# Altium schematic symbol library Roneire_Lib.SchLib: 2 symbols
Pins are listed as number, name and electrical type; pins without a type are passive.

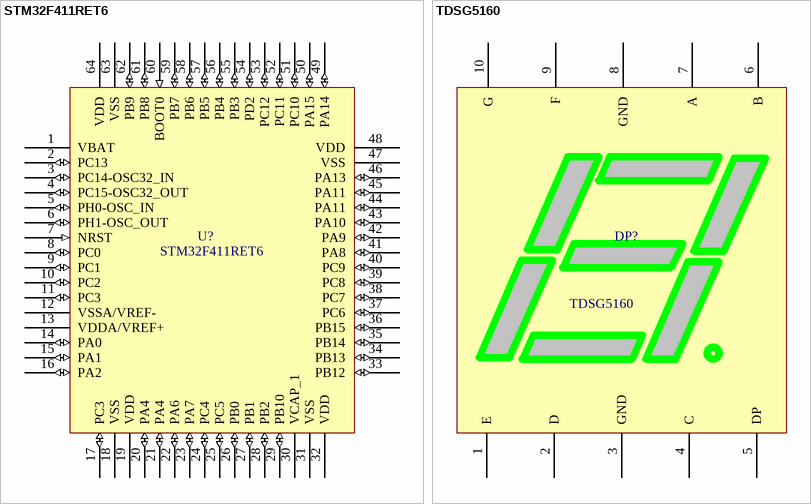
[diagram p0: symbols STM32F411RET6 to TDSG5160]

## STM32F411RET6
designator U?
IC MCU 32BIT 512KB FLASH 64LQFP; Manufacturer: STMicroelectronics; Core Architecture: ARM; Interface: I2C,SPI,USB,IrDA,MMC,SDIO,SD,UART,USART,LIN,I2S; Operating Supply Voltage: 3.3V; Data Bus Width: 32b; Peripherals: Brown-out Detect/Reset,POR,PWM,WDT,DMA; Frequency: 100MHz; Oscillator Type: Internal; Number of I/Os: 50; Min Supply Voltage: 1.7V; Watchdog Timer: Yes; Max Supply Voltage: 3.6V; RAM Size: 128KB; Max Power Dissipation: 313mW; Number of Timers/Counters: 8; Number of ADC Channels: 16; Supplier 1: Digi-Key; Stock 1: 5414; Pricing 1: 1 = 6,81000, 10 = 6,15600, 25 = 5,87000, 100 = 5,09690, 250 = 4,86780, 500 = 4,43828, 1000 = 3,86559, 2500 = 3,72242, 5000 = 3,57925 (USD); RoHS: Yes; Mount: Surface Mount; Case/Package: LQFP; Number of Pins: 64; Weight: 0.012088oz; Min Operating Temperature: -40°C; Max Operating Temperature: 85°C; Packaging: Tray; Package Quantity: 960; Memory Type: FLASH; Memory Size: 512KB; Number of Programmable I/O: 50; Max Frequency: 100MHz; Length: 10mm; Width: 10mm; Radiation Hardening: No; Lead Free: Lead Free; REACH SVHC: No SVHC; ComponentLink1URL: http://www.mouser.com/ds/2/389/stm32f411ce-956237.pdf?src-supplier=Mouser; ComponentLink1Description: http://www.mouser.com/ds/2/389/stm32f411ce-956237.pdf?src-supplier=Mouser; ComponentLink2URL: http://www.farnell.com/datasheets/1941006.pdf?src-supplier=Farnell; ComponentLink2Description: http://www.farnell.com/datasheets/1941006.pdf?src-supplier=Farnell; ComponentLink3URL: http://www.st.com/st-web-ui/static/active/en/resource/technical/document/datasheet/DM00115249.pdf?src-supplier=Avnet; ComponentLink3Description: http://www.st.com/st-web-ui/static/active/en/resource/technical/document/datasheet/DM00115249.pdf?src-supplier=Avnet; ComponentLink4URL: http://www.st.com/content/ccc/resource/technical/document/datasheet/b3/a5/46/3b/b4/e5/4c/85/DM00115249.pdf/files/DM00115249.pdf/jcr:content/translations/en.DM00115249.pdf?src-supplier=Digi-Key; ComponentLink4Description: http://www.st.com/content/ccc/resource/technical/document/datasheet/b3/a5/46/3b/b4/e5/4c/85/DM00115249.pdf/files/DM00115249.pdf/jcr:content/translations/en.DM00115249.pdf?src-supplier=Digi-Key; ComponentLink5URL: http://www.farnell.com/datasheets/1941006.pdf?src-supplier=Newark; ComponentLink5Description: http://www.farnell.com/datasheets/1941006.pdf?src-supplier=Newark; ComponentLink6URL: http://www.farnell.com/datasheets/1869644.pdf?src-supplier=Element14; ComponentLink6Description: http://www.farnell.com/datasheets/1869644.pdf?src-supplier=Element14; Supplier Part Number 1: 497-14909-ND; Manufacturer Part Number: STM32F411RET6
footprint LQFP64
pins: 1 VBAT (power), 2 PC13 (io), 3 PC14-OSC32_IN (io), 4 PC15-OSC32_OUT (io), 5 PH0-OSC_IN (io), 6 PH1-OSC_OUT (io), 7 NRST (in), 8 PC0 (io), 9 PC1 (io), 10 PC2 (io), 11 PC3 (io), 12 VSSA/VREF- (power), 13 VDDA/VREF+ (power), 14 PA0 (io), 15 PA1 (io), 16 PA2 (io), 17 PC3 (io), 18 VSS (power), 19 VDD (power), 20 PA4 (io), 21 PA4 (io), 22 PA6 (io), 23 PA7 (io), 24 PC4 (io), 25 PC5 (io), 26 PB0 (io), 27 PB1 (io), 28 PB2 (io), 29 PB10 (io), 30 VCAP_1, 31 VSS (power), 32 VDD (power), 33 PB12 (io), 34 PB13 (io), 35 PB14 (io), 36 PB15 (io), 37 PC6 (io), 38 PC7 (io), 39 PC8 (io), 40 PC9 (io), 41 PA8 (io), 42 PA9 (io), 43 PA10 (io), 44 PA11 (io), 45 PA11 (io), 46 PA13 (io), 47 VSS (power), 48 VDD (power), 49 PA14 (io), 50 PA15 (io), 51 PC10 (io), 52 PC11 (io), 53 PC12 (io), 54 PD2 (io), 55 PB3 (io), 56 PB4 (io), 57 PB5 (io), 58 PB6 (io), 59 PB7 (io), 60 BOOT0 (in), 61 PB8 (io), 62 PB9 (io), 63 VSS (power), 64 VDD (power)

## TDSG5160
designator DP?
Displays Module 1DIGIT 8LED Green CC 10-Pin DIP Module; Manufacturer: Vishay Semiconductors; Forward Voltage: 2.4V; Forward Current: 25mA; Luminous Intensity: 9.5mcd; Number of Characters: 1; Max Power Dissipation: 550mW; Test Current: 10mA; Wavelength: 575nm; Element Configuration: Common Cathode; Viewing Area (height): 13mm; Number of Elements: 8; Reverse Voltage: 15V; Character Width: 7.4mm; Number of Segments: 7; Viewing Angle: 50°; Supplier 1: Allied Electronics; Stock 1: 0; Pricing 1: 400 = 0,69900 (USD); RoHS: Yes; Mount: Through Hole,PCB; Case/Package: DIP; Number of Pins: 10; Color: Green; Min Operating Temperature: -40°C; Max Operating Temperature: 85°C; Packaging: Bulk; Package Quantity: 400; Illumination Color: Green; Operating Supply Voltage: 2.4V; Power Dissipation: 550mW; Dominant Wavelength: 575nm; Power Consumption: 550mW; Character Height: 13mm; Number of Positions: 1; Length: 12.25mm; Height: 0.689inch; Width: 0.482inch; Depth: 17.5mm; Radiation Hardening: No; ComponentLink1URL: https://datasheet.ciiva.com/4263/tdsg11-4263936.pdf?src-supplier=Arrow; ComponentLink1Description: https://datasheet.ciiva.com/4263/tdsg11-4263936.pdf?src-supplier=Arrow; ComponentLink2URL: https://datasheet.ciiva.com/4263/tdsl11-4263299.pdf?src-supplier=Arrow; ComponentLink2Description: https://datasheet.ciiva.com/4263/tdsl11-4263299.pdf?src-supplier=Arrow; ComponentLink3URL: https://datasheet.ciiva.com/11771/0900766b80e30a57-11771290.pdf?src-supplier=RSComponents; ComponentLink3Description: https://datasheet.ciiva.com/11771/0900766b80e30a57-11771290.pdf?src-supplier=RSComponents; ComponentLink4URL: https://datasheet.ciiva.com/15136/getdatasheetpartid-44902-15136383.pdf?src-supplier=Verical; ComponentLink4Description: https://datasheet.ciiva.com/15136/getdatasheetpartid-44902-15136383.pdf?src-supplier=Verical; ComponentLink5URL: https://datasheet.ciiva.com/3208/tdsl51-3208469.pdf?src-supplier=Avnet; ComponentLink5Description: https://datasheet.ciiva.com/3208/tdsl51-3208469.pdf?src-supplier=Avnet; ComponentLink6URL: https://datasheet.ciiva.com/14165/xntdsgoy51-14165399.pdf?src-supplier=Distrelec; ComponentLink6Description: https://datasheet.ciiva.com/14165/xntdsgoy51-14165399.pdf?src-supplier=Distrelec; ComponentLink7URL: https://datasheet.ciiva.com/18549/tdsg51-18549816.pdf?src-supplier=Digi-Key; ComponentLink7Description: https://datasheet.ciiva.com/18549/tdsg51-18549816.pdf?src-supplier=Digi-Key; Supplier Part Number 1: 70061451; Manufacturer Part Number: TDSG5160
pins: 1 E, 2 D, 3 GND, 4 C, 5 DP, 6 B, 7 A, 8 GND, 9 F, 10 G